# EAGLE library part A4988_STEP (library Boards)
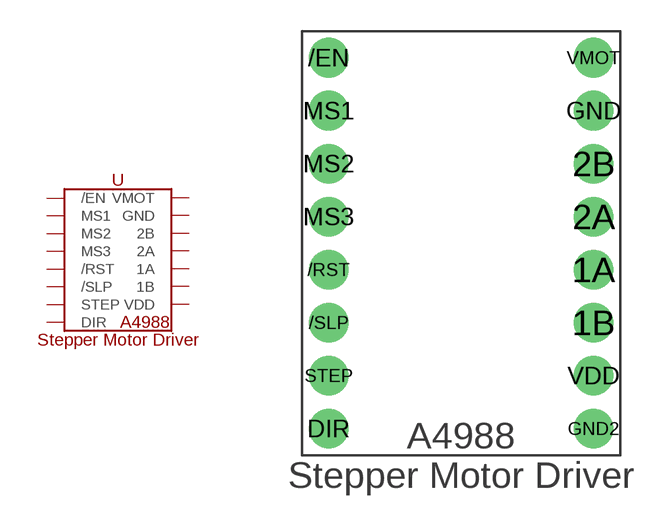
[diagram p2: symbol with the pads of A4988_STEP; footprint A4988_STEP]

Designator prefix -

## A4988_STEP  [A4988_STEP]
1A  1A
1B  1B
2A  2A
2B  2B
/EN  /EN
/RST  /RST
/SLP  /SLP
DIR  DIR
GND  GND
GND2  GND
MS1  MS1
MS2  MS2
MS3  MS3
STEP  STEP
VDD  VDD
VMOT  VMOT

## Footprint A4988_STEP (pad centres in mm)
drill 0.8 pad 1.905: 1A 6.35,-1.27; 1B 6.35,-3.81; 2A 6.35,1.27; 2B 6.35,3.81; /EN -6.35,8.89; /RST -6.35,-1.27; /SLP -6.35,-3.81; DIR -6.35,-8.89; GND 6.35,6.35; GND2 6.35,-8.89; MS1 -6.35,6.35; MS2 -6.35,3.81; MS3 -6.35,1.27; STEP -6.35,-6.35; VDD 6.35,-6.35; VMOT 6.35,8.89